# Altium schematic symbol library aqy280sx.SchLib: 1 symbol
Pins are listed as number, name and electrical type; pins without a type are passive.

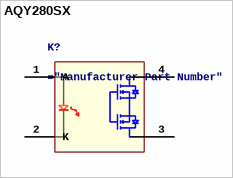
[diagram p0: symbol AQY280SX]

## AQY280SX
designator K?
Solid State Photo-Coupled Relay (Photorelay) SPST-NO (1 Form A) 4-SOP (0.173", 4.40mm)
pins: 1 A, 2 K, 3, 4